# Altium footprint library LC-MSOP-8.PcbLib: 1 footprints
Each footprint in its own frame and in the unit in brackets; x right, y up, seen from the top. Pads: shape width x height; smd on the part's side, far side on the other; paste and mask are expansions set on the pad; w line width, h text height; cw(c..) or ccw(c..) is an arc to the next point about the centre after c.
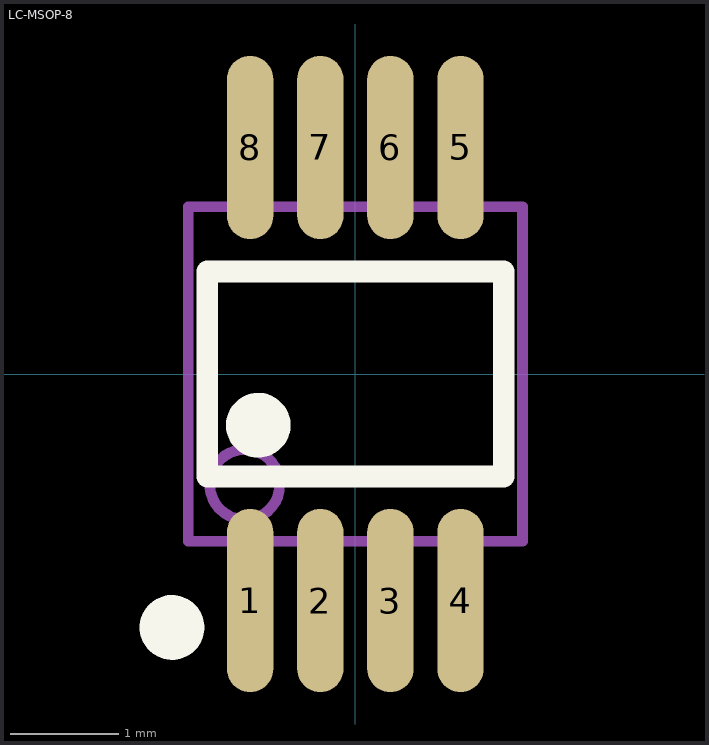
[diagram p0: the footprint, top view; thin cyan lines are the x and y axes]

## LC-MSOP-8 [mm]
pads (8):
  oval 0.43x1.7 smd mask+0.051: 1(-0.975,-2.1) 2(-0.325,-2.1) 3(0.325,-2.1) 4(0.975,-2.1) 5(0.975,2.1) 6(0.325,2.1) 7(-0.325,2.1) 8(-0.975,2.1)
Top Overlay:
  circle w0.3: c-1.7,-2.35 r0.15
  circle w0.3: c-0.9,-0.475 r0.15
  lines w0.2: -1.375,-0.95 -1.375,0.95 1.375,0.95 1.375,-0.95 -1.375,-0.95
Mechanical 13:
  circle w0.1: c-1.025,-1.025 r0.325
  lines w0.1: -1.55,-1.55 -1.55,1.55 1.55,1.55 1.55,-1.55 -1.55,-1.55